# Altium schematic symbol library DW01A.SchLib: 1 symbol
Pins are listed as number, name and electrical type; pins without a type are passive.

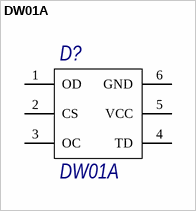
[diagram p0: symbol DW01A]

## DW01A
designator D?
footprint SOT95P245X145-6N (SOT23, 5-Leads, Body 2,90x2,45mm, Pitch 0,95mm, IPC Medium Density)
pins: 1 OD, 2 CS, 3 OC, 4 TD, 5 VCC (power), 6 GND (power)